# EAGLE library part 690_368_17_20_7 (library SHC)
MM FEMALE ANGLED CONNECTOR WITH POLARIZATION WITHOUT LATCH
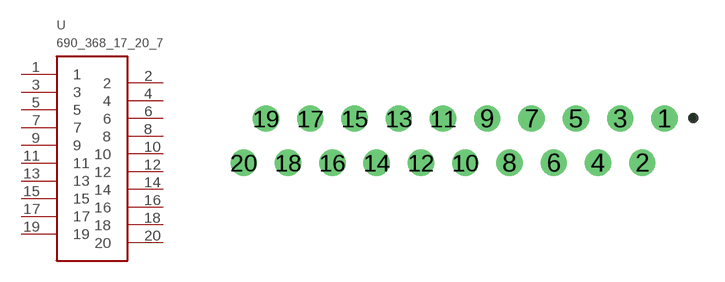
[diagram p23: symbol with the pads of 690_368_17_20_7; footprint 690_368_17_20_7]

Designator prefix -

## 690_368_17_20_7  [690_368_17_20_7]
1  1
2  2
3  3
4  4
5  5
6  6
7  7
8  8
9  9
10  10
11  11
12  12
13  13
14  14
15  15
16  16
17  17
18  18
19  19
20  20

## Footprint 690_368_17_20_7 (pad centres in mm)
drill 1: 1 13.97,1.27; 2 12.7,-1.27; 3 11.43,1.27; 4 10.16,-1.27; 5 8.89,1.27; 6 7.62,-1.27; 7 6.35,1.27; 8 5.08,-1.27; 9 3.81,1.27; 10 2.54,-1.27; 11 1.27,1.27; 12 0,-1.27; 13 -1.27,1.27; 14 -2.54,-1.27; 15 -3.81,1.27; 16 -5.08,-1.27; 17 -6.35,1.27; 18 -7.62,-1.27; 19 -8.89,1.27; 20 -10.16,-1.27